# EAGLE library part AD7792 (library ad)
3-Channel, Low Noise, Low Power, 16-Bit Sigma-Delta ADC with On-Chip In-Amp and Reference
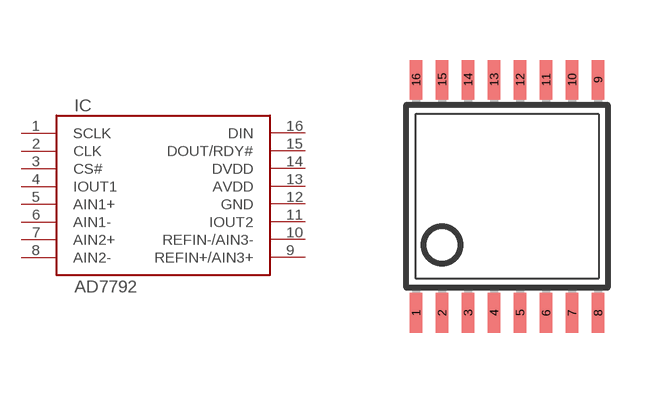
[diagram p1: symbol with the pads of TSSOP16; footprint TSSOP16]

Designator prefix IC

## AD7792  [TSSOP16]
1  SCLK  in
2  CLK
3  CS#  in
4  IOUT1  out
5  AIN1+  in
6  AIN1-  in
7  AIN2+  in
8  AIN2-  in
9  REFIN+/AIN3+
10  REFIN-/AIN3-
11  IOUT2  out
12  GND  pwr
13  AVDD  pwr
14  DVDD  pwr
15  DOUT/RDY#  out
16  DIN  in

## Footprint TSSOP16 (pad centres in mm)
Thin Shrink Small Outline Plastic TSSOP16
smd 0.305 x 0.991: 1 -2.275,-2.918; 2 -1.625,-2.918; 3 -0.975,-2.918; 4 -0.325,-2.918; 5 0.325,-2.918; 6 0.975,-2.918; 7 1.625,-2.918; 8 2.275,-2.918; 9 2.275,2.918; 10 1.625,2.918; 11 0.975,2.918; 12 0.325,2.918; 13 -0.325,2.918; 14 -0.975,2.918; 15 -1.625,2.918; 16 -2.275,2.918